# EAGLE library part WE-RJ45_7499111614A (library 7499511611A_Eagle_WE-RJ45_rev20a)
WE-RJ45 LAN Transformer Characteristics RJ45 Connector with integrated transformer / common mode choke Power over Ethernet up to 50 Watt and speeds up to 10 Gbit/s Available in SMD, THT and THT with USB Compliant with standards: IEEE 802.3u, IEEE 802.3ab, IEEE 802.3af, IEEE 802.3at, IEEE 802.3an and upcoming IEE 802.3bt Applications Suitable for industrial temperatures from –40 °C up to +85 °C Compatible to Industrial Ethernet systems like EtherCAT or Profinet Compliant with most IC’s for Ethernet applications such as Microchip, Texas Instruments, Broadcom, Linear Technology Hubs, Routers, Switches, IP cameras, IoT applications <https://katalog.we-online.com/media/images/v2/o35731v209%20Family_WE-RJ45-LAN.jpg> Details see: https://katalog.we-online.com/en/pbs/WE-LAN-RJ45 Updated by Ella Wu 2019-08-05 2019 (C) Wurth Elektronik
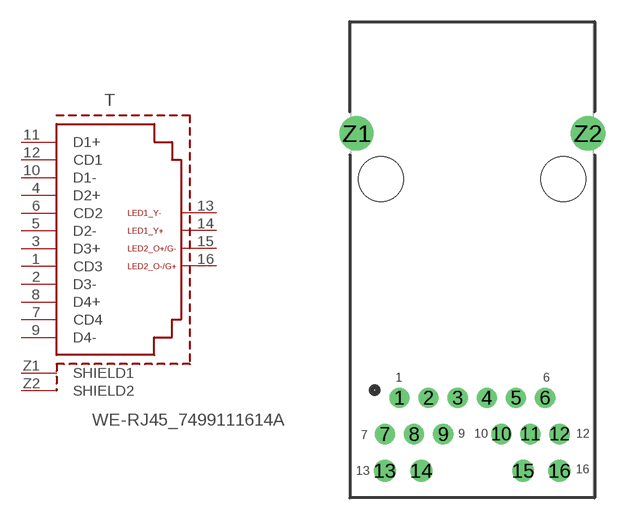
[diagram p39: symbol with the pads of 7499111614A; footprint 7499111614A]

Designator prefix T

## WE-RJ45_7499111614A (DATA-RATE: 10/100/1000 Base-T; DATASHEET-URL: https://www.we-online.com/catalog/datasheet/7499111614A.pdf; LED: green/orange-yellow; MOUNT: THT; PART-NUMBER: 7499111614A; POE: non-PoE; PORTS: 1; USB: No)  [7499111614A]
1  CD3
2  D3-
3  D3+
4  D2+
5  D2-
6  CD2
7  CD4
8  D4+
9  D4-
10  D1-
11  D1+
12  CD1
13  LED1_Y-
14  LED1_Y+
15  LED2_O+/G-
16  LED2_O-/G+
Z1  SHIELD1  pwr
Z2  SHIELD2  pwr

## Footprint 7499111614A (pad centres in mm)
WE-RJ45 LAN Transformer 10/100/1000 Base-T
drill 0.9: 1 -5.075,-15.24; 2 -3.045,-15.24; 3 -1.015,-15.24; 4 1.015,-15.24; 5 3.045,-15.24; 6 5.075,-15.24; 7 -6.085,-17.78; 8 -4.055,-17.78; 9 -2.025,-17.78; 10 2.025,-17.78; 11 4.055,-17.78; 12 6.085,-17.78
drill 1.02: 13 -6.09,-20.32; 14 -3.55,-20.32; 15 3.55,-20.32; 16 6.09,-20.32
drill 1.6: Z1 -8.065,3.18; Z2 8.065,3.18
hole 3.15 at 6.35,0
hole 3.15 at -6.35,0